# EAGLE library part EP4CE6F17_S (library altera-cyclone)
EP4CE6F17 edit this description Auto generated by make-symbol-device-package-bsdl.ulp Rev. 43 Source: EP4CE6F17.bsdl Connect-List generated from IS.DEV Variant X with split-device-symbol.ulp
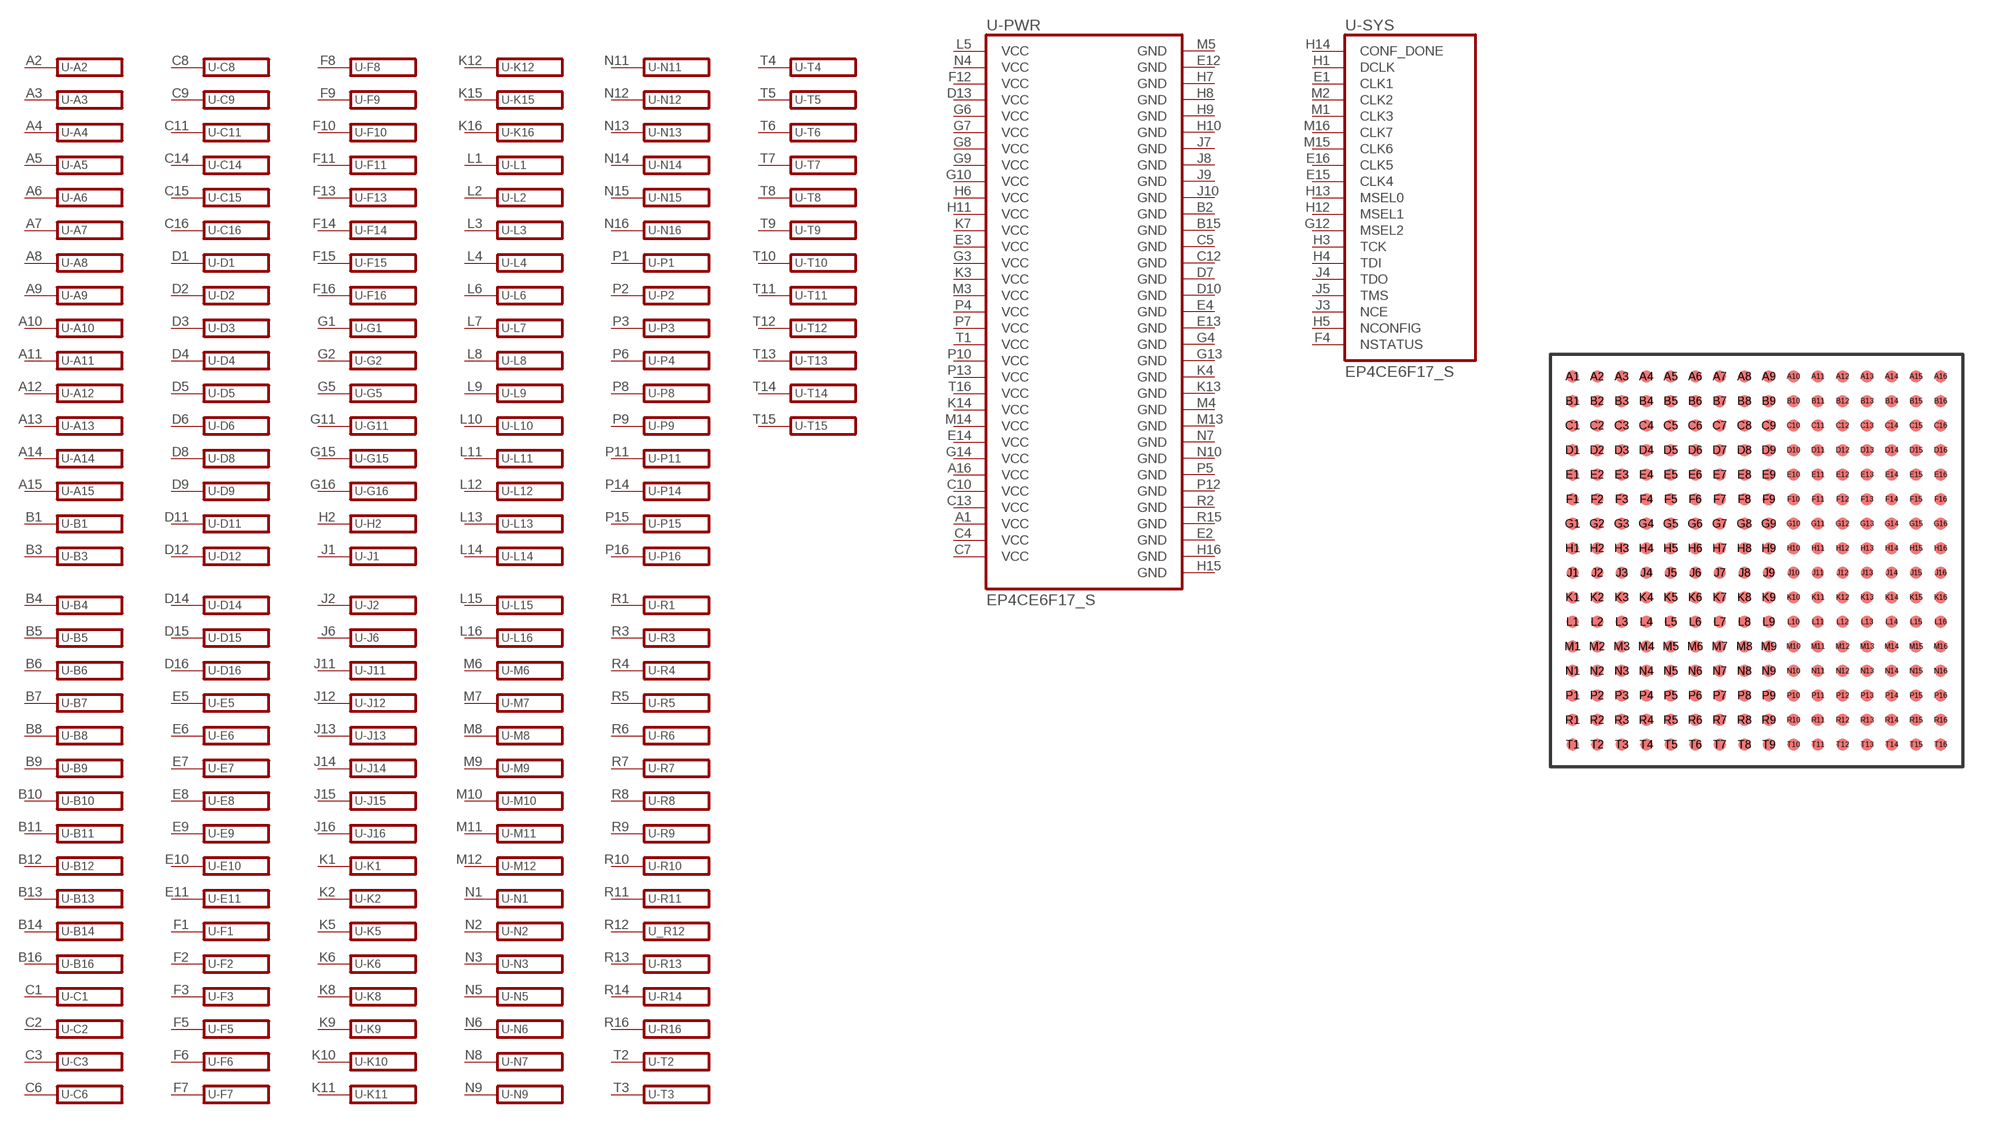
[diagram p2: symbol with the pads of FBGA256; footprint FBGA256]

Designator prefix U; gates -PWR=EP4CE6F17_PWR -SYS=EP4CE6F17_SYS -A2=IOPIN -A3=IOPIN -A4=IOPIN -A5=IOPIN -A6=IOPIN -A7=IOPIN -A8=IOPIN -A9=IOPIN -A10=IOPIN -A11=IOPIN -A12=IOPIN -A13=IOPIN -A14=IOPIN -A15=IOPIN -B1=IOPIN -B3=IOPIN -B4=IOPIN -B5=IOPIN -B6=IOPIN -B7=IOPIN -B8=IOPIN -B9=IOPIN -B10=IOPIN -B11=IOPIN -B12=IOPIN -B13=IOPIN -B14=IOPIN -B16=IOPIN -C1=IOPIN -C2=IOPIN -C3=IOPIN -C6=IOPIN -C8=IOPIN -C9=IOPIN -C11=IOPIN -C14=IOPIN -C15=IOPIN -C16=IOPIN -D1=IOPIN -D2=IOPIN -D3=IOPIN -D4=IOPIN -D5=IOPIN -D6=IOPIN -D8=IOPIN -D9=IOPIN -D11=IOPIN -D12=IOPIN -D14=IOPIN -D15=IOPIN -D16=IOPIN -E5=IOPIN -E6=IOPIN -E7=IOPIN -E8=IOPIN -E9=IOPIN -E10=IOPIN -E11=IOPIN -F1=IOPIN -F2=IOPIN -F3=IOPIN -F5=IOPIN -F6=IOPIN -F7=IOPIN -F8=IOPIN -F9=IOPIN -F10=IOPIN -F11=IOPIN -F13=IOPIN -F14=IOPIN -F15=IOPIN -F16=IOPIN -G1=IOPIN -G2=IOPIN -G5=IOPIN -G11=IOPIN -G15=IOPIN -G16=IOPIN -H2=IOPIN -J1=IOPIN -J2=IOPIN -J6=IOPIN -J11=IOPIN -J12=IOPIN -J13=IOPIN -J14=IOPIN -J15=IOPIN -J16=IOPIN -K1=IOPIN -K2=IOPIN -K5=IOPIN -K6=IOPIN -K8=IOPIN -K9=IOPIN -K10=IOPIN -K11=IOPIN -K12=IOPIN -K15=IOPIN -K16=IOPIN -L1=IOPIN -L2=IOPIN -L3=IOPIN -L4=IOPIN -L6=IOPIN -L7=IOPIN -L8=IOPIN -L9=IOPIN -L10=IOPIN -L11=IOPIN -L12=IOPIN -L13=IOPIN -L14=IOPIN -L15=IOPIN -L16=IOPIN -M6=IOPIN -M7=IOPIN -M8=IOPIN -M9=IOPIN -M10=IOPIN -M11=IOPIN -M12=IOPIN -N1=IOPIN -N2=IOPIN -N3=IOPIN -N5=IOPIN -N6=IOPIN -N7=IOPIN -N9=IOPIN -N11=IOPIN -N12=IOPIN -N13=IOPIN -N14=IOPIN -N15=IOPIN -N16=IOPIN -P1=IOPIN -P2=IOPIN -P3=IOPIN -P4=IOPIN -P8=IOPIN -P9=IOPIN -P11=IOPIN -P14=IOPIN -P15=IOPIN -P16=IOPIN -R1=IOPIN -R3=IOPIN -R4=IOPIN -R5=IOPIN -R6=IOPIN -R7=IOPIN -R8=IOPIN -R9=IOPIN -R10=IOPIN -R11=IOPIN _R12=IOPIN -R13=IOPIN -R14=IOPIN -R16=IOPIN -T2=IOPIN -T3=IOPIN -T4=IOPIN -T5=IOPIN -T6=IOPIN -T7=IOPIN -T8=IOPIN -T9=IOPIN -T10=IOPIN -T11=IOPIN -T12=IOPIN -T13=IOPIN -T14=IOPIN -T15=IOPIN

## EP4CE6F17_S (P1I: o)  [FBGA256]
A1  -PWR:VCC  pwr
A2  -A2:1
A3  -A3:1
A4  -A4:1
A5  -A5:1
A6  -A6:1
A7  -A7:1
A8  -A8:1
A9  -A9:1
A10  -A10:1
A11  -A11:1
A12  -A12:1
A13  -A13:1
A14  -A14:1
A15  -A15:1
A16  -PWR:VCC  pwr
B1  -B1:1
B2  -PWR:GND  pwr
B3  -B3:1
B4  -B4:1
B5  -B5:1
B6  -B6:1
B7  -B7:1
B8  -B8:1
B9  -B9:1
B10  -B10:1
B11  -B11:1
B12  -B12:1
B13  -B13:1
B14  -B14:1
B15  -PWR:GND  pwr
B16  -B16:1
C1  -C1:1
C2  -C2:1
C3  -C3:1
C4  -PWR:VCC  pwr
C5  -PWR:GND  pwr
C6  -C6:1
C7  -PWR:VCC  pwr
C8  -C8:1
C9  -C9:1
C10  -PWR:VCC  pwr
C11  -C11:1
C12  -PWR:GND  pwr
C13  -PWR:VCC  pwr
C14  -C14:1
C15  -C15:1
C16  -C16:1
D1  -D1:1
D2  -D2:1
D3  -D3:1
D4  -D4:1
D5  -D5:1
D6  -D6:1
D7  -PWR:GND  pwr
D8  -D8:1
D9  -D9:1
D10  -PWR:GND  pwr
D11  -D11:1
D12  -D12:1
D13  -PWR:VCC  pwr
D14  -D14:1
D15  -D15:1
D16  -D16:1
E1  -SYS:CLK1  pas
E2  -PWR:GND  pwr
E3  -PWR:VCC  pwr
E4  -PWR:GND  pwr
E5  -E5:1
E6  -E6:1
E7  -E7:1
E8  -E8:1
E9  -E9:1
E10  -E10:1
E11  -E11:1
E12  -PWR:GND  pwr
E13  -PWR:GND  pwr
E14  -PWR:VCC  pwr
E15  -SYS:CLK4  pas
E16  -SYS:CLK5  pas
F1  -F1:1
F2  -F2:1
F3  -F3:1
F4  -SYS:NSTATUS  pas
F5  -F5:1
F6  -F6:1
F7  -F7:1
F8  -F8:1
F9  -F9:1
F10  -F10:1
F11  -F11:1
F12  -PWR:VCC  pwr
F13  -F13:1
F14  -F14:1
F15  -F15:1
F16  -F16:1
G1  -G1:1
G2  -G2:1
G3  -PWR:VCC  pwr
G4  -PWR:GND  pwr
G5  -G5:1
G6  -PWR:VCC  pwr
G7  -PWR:VCC  pwr
G8  -PWR:VCC  pwr
G9  -PWR:VCC  pwr
G10  -PWR:VCC  pwr
G11  -G11:1
G12  -SYS:MSEL2  in
G13  -PWR:GND  pwr
G14  -PWR:VCC  pwr
G15  -G15:1
G16  -G16:1
H1  -SYS:DCLK  pas
H2  -H2:1
H3  -SYS:TCK  in
H4  -SYS:TDI  in
H5  -SYS:NCONFIG  pas
H6  -PWR:VCC  pwr
H7  -PWR:GND  pwr
H8  -PWR:GND  pwr
H9  -PWR:GND  pwr
H10  -PWR:GND  pwr
H11  -PWR:VCC  pwr
H12  -SYS:MSEL1  in
H13  -SYS:MSEL0  in
H14  -SYS:CONF_DONE  pas
H15  -PWR:GND  pwr
H16  -PWR:GND  pwr
J1  -J1:1
J2  -J2:1
J3  -SYS:NCE  pas
J4  -SYS:TDO  out
J5  -SYS:TMS  in
J6  -J6:1
J7  -PWR:GND  pwr
J8  -PWR:GND  pwr
J9  -PWR:GND  pwr
J10  -PWR:GND  pwr
J11  -J11:1
J12  -J12:1
J13  -J13:1
J14  -J14:1
J15  -J15:1
J16  -J16:1
K1  -K1:1
K2  -K2:1
K3  -PWR:VCC  pwr
K4  -PWR:GND  pwr
K5  -K5:1
K6  -K6:1
K7  -PWR:VCC  pwr
K8  -K8:1
K9  -K9:1
K10  -K10:1
K11  -K11:1
K12  -K12:1
K13  -PWR:GND  pwr
K14  -PWR:VCC  pwr
K15  -K15:1
K16  -K16:1
L1  -L1:1
L2  -L2:1
L3  -L3:1
L4  -L4:1
L5  -PWR:VCC  pwr
L6  -L6:1
L7  -L7:1
L8  -L8:1
L9  -L9:1
L10  -L10:1
L11  -L11:1
L12  -L12:1
L13  -L13:1
L14  -L14:1
L15  -L15:1
L16  -L16:1
M1  -SYS:CLK3  pas
M2  -SYS:CLK2  pas
M3  -PWR:VCC  pwr
M4  -PWR:GND  pwr
M5  -PWR:GND  pwr
M6  -M6:1
M7  -M7:1
M8  -M8:1
M9  -M9:1
M10  -M10:1
M11  -M11:1
M12  -M12:1
M13  -PWR:GND  pwr
M14  -PWR:VCC  pwr
M15  -SYS:CLK6  pas
M16  -SYS:CLK7  pas
N1  -N1:1
N2  -N2:1
N3  -N3:1
N4  -PWR:VCC  pwr
N5  -N5:1
N6  -N6:1
N7  -PWR:GND  pwr
N8  -N7:1
N9  -N9:1
N10  -PWR:GND  pwr
N11  -N11:1
N12  -N12:1
N13  -N13:1
N14  -N14:1
N15  -N15:1
N16  -N16:1
P1  -P1:1
P2  -P2:1
P3  -P3:1
P4  -PWR:VCC  pwr
P5  -PWR:GND  pwr
P6  -P4:1
P7  -PWR:VCC  pwr
P8  -P8:1
P9  -P9:1
P10  -PWR:VCC  pwr
P11  -P11:1
P12  -PWR:GND  pwr
P13  -PWR:VCC  pwr
P14  -P14:1
P15  -P15:1
P16  -P16:1
R1  -R1:1
R2  -PWR:GND  pwr
R3  -R3:1
R4  -R4:1
R5  -R5:1
R6  -R6:1
R7  -R7:1
R8  -R8:1
R9  -R9:1
R10  -R10:1
R11  -R11:1
R12  _R12:1
R13  -R13:1
R14  -R14:1
R15  -PWR:GND  pwr
R16  -R16:1
T1  -PWR:VCC  pwr
T2  -T2:1
T3  -T3:1
T4  -T4:1
T5  -T5:1
T6  -T6:1
T7  -T7:1
T8  -T8:1
T9  -T9:1
T10  -T10:1
T11  -T11:1
T12  -T12:1
T13  -T13:1
T14  -T14:1
T15  -T15:1
T16  -PWR:VCC  pwr

## Footprint FBGA256 (pad centres in mm)
EP4CE6F17 edit this description Auto generated by make-symbol-device-package-bsdl.ulp Rev. 43 Source: EP4CE6F17.bsdl
smd 0.5 x 0.5: A1 -7.5,7.5; A2 -6.5,7.5; A3 -5.5,7.5; A4 -4.5,7.5; A5 -3.5,7.5; A6 -2.5,7.5; A7 -1.5,7.5; A8 -0.5,7.5; A9 0.5,7.5; A10 1.5,7.5; A11 2.5,7.5; A12 3.5,7.5; A13 4.5,7.5; A14 5.5,7.5; A15 6.5,7.5; A16 7.5,7.5; B1 -7.5,6.5; B2 -6.5,6.5; B3 -5.5,6.5; B4 -4.5,6.5; B5 -3.5,6.5; B6 -2.5,6.5; B7 -1.5,6.5; B8 -0.5,6.5; B9 0.5,6.5; B10 1.5,6.5; B11 2.5,6.5; B12 3.5,6.5; B13 4.5,6.5; B14 5.5,6.5; B15 6.5,6.5; B16 7.5,6.5; C1 -7.5,5.5; C2 -6.5,5.5; C3 -5.5,5.5; C4 -4.5,5.5; C5 -3.5,5.5; C6 -2.5,5.5; C7 -1.5,5.5; C8 -0.5,5.5; C9 0.5,5.5; C10 1.5,5.5; C11 2.5,5.5; C12 3.5,5.5; C13 4.5,5.5; C14 5.5,5.5; C15 6.5,5.5; C16 7.5,5.5; D1 -7.5,4.5; D2 -6.5,4.5; D3 -5.5,4.5; D4 -4.5,4.5; D5 -3.5,4.5; D6 -2.5,4.5; D7 -1.5,4.5; D8 -0.5,4.5; D9 0.5,4.5; D10 1.5,4.5; D11 2.5,4.5; D12 3.5,4.5; D13 4.5,4.5; D14 5.5,4.5; D15 6.5,4.5; D16 7.5,4.5; E1 -7.5,3.5; E2 -6.5,3.5; E3 -5.5,3.5; E4 -4.5,3.5; E5 -3.5,3.5; E6 -2.5,3.5; E7 -1.5,3.5; E8 -0.5,3.5; E9 0.5,3.5; E10 1.5,3.5; E11 2.5,3.5; E12 3.5,3.5; E13 4.5,3.5; E14 5.5,3.5; E15 6.5,3.5; E16 7.5,3.5; F1 -7.5,2.5; F2 -6.5,2.5; F3 -5.5,2.5; F4 -4.5,2.5; F5 -3.5,2.5; F6 -2.5,2.5; F7 -1.5,2.5; F8 -0.5,2.5; F9 0.5,2.5; F10 1.5,2.5; F11 2.5,2.5; F12 3.5,2.5; F13 4.5,2.5; F14 5.5,2.5; F15 6.5,2.5; F16 7.5,2.5; G1 -7.5,1.5; G2 -6.5,1.5; G3 -5.5,1.5; G4 -4.5,1.5; G5 -3.5,1.5; G6 -2.5,1.5; G7 -1.5,1.5; G8 -0.5,1.5; G9 0.5,1.5; G10 1.5,1.5; G11 2.5,1.5; G12 3.5,1.5; G13 4.5,1.5; G14 5.5,1.5; G15 6.5,1.5; G16 7.5,1.5; H1 -7.5,0.5; H2 -6.5,0.5; H3 -5.5,0.5; H4 -4.5,0.5; H5 -3.5,0.5; H6 -2.5,0.5; H7 -1.5,0.5; H8 -0.5,0.5; H9 0.5,0.5; H10 1.5,0.5; H11 2.5,0.5; H12 3.5,0.5; H13 4.5,0.5; H14 5.5,0.5; H15 6.5,0.5; H16 7.5,0.5; J1 -7.5,-0.5; J2 -6.5,-0.5; J3 -5.5,-0.5; J4 -4.5,-0.5; J5 -3.5,-0.5; J6 -2.5,-0.5; J7 -1.5,-0.5; J8 -0.5,-0.5; J9 0.5,-0.5; J10 1.5,-0.5; J11 2.5,-0.5; J12 3.5,-0.5; J13 4.5,-0.5; J14 5.5,-0.5; J15 6.5,-0.5; J16 7.5,-0.5; K1 -7.5,-1.5; K2 -6.5,-1.5; K3 -5.5,-1.5; K4 -4.5,-1.5; K5 -3.5,-1.5; K6 -2.5,-1.5; K7 -1.5,-1.5; K8 -0.5,-1.5; K9 0.5,-1.5; K10 1.5,-1.5; K11 2.5,-1.5; K12 3.5,-1.5; K13 4.5,-1.5; K14 5.5,-1.5; K15 6.5,-1.5; K16 7.5,-1.5; L1 -7.5,-2.5; L2 -6.5,-2.5; L3 -5.5,-2.5; L4 -4.5,-2.5; L5 -3.5,-2.5; L6 -2.5,-2.5; L7 -1.5,-2.5; L8 -0.5,-2.5; L9 0.5,-2.5; L10 1.5,-2.5; L11 2.5,-2.5; L12 3.5,-2.5; L13 4.5,-2.5; L14 5.5,-2.5; L15 6.5,-2.5; L16 7.5,-2.5; M1 -7.5,-3.5; M2 -6.5,-3.5; M3 -5.5,-3.5; M4 -4.5,-3.5; M5 -3.5,-3.5; M6 -2.5,-3.5; M7 -1.5,-3.5; M8 -0.5,-3.5; M9 0.5,-3.5; M10 1.5,-3.5; M11 2.5,-3.5; M12 3.5,-3.5; M13 4.5,-3.5; M14 5.5,-3.5; M15 6.5,-3.5; M16 7.5,-3.5; N1 -7.5,-4.5; N2 -6.5,-4.5; N3 -5.5,-4.5; N4 -4.5,-4.5; N5 -3.5,-4.5; N6 -2.5,-4.5; N7 -1.5,-4.5; N8 -0.5,-4.5; N9 0.5,-4.5; N10 1.5,-4.5; N11 2.5,-4.5; N12 3.5,-4.5; N13 4.5,-4.5; N14 5.5,-4.5; N15 6.5,-4.5; N16 7.5,-4.5; P1 -7.5,-5.5; P2 -6.5,-5.5; P3 -5.5,-5.5; P4 -4.5,-5.5; P5 -3.5,-5.5; P6 -2.5,-5.5; P7 -1.5,-5.5; P8 -0.5,-5.5; P9 0.5,-5.5; P10 1.5,-5.5; P11 2.5,-5.5; P12 3.5,-5.5; P13 4.5,-5.5; P14 5.5,-5.5; P15 6.5,-5.5; P16 7.5,-5.5; R1 -7.5,-6.5; R2 -6.5,-6.5; R3 -5.5,-6.5; R4 -4.5,-6.5; R5 -3.5,-6.5; R6 -2.5,-6.5; R7 -1.5,-6.5; R8 -0.5,-6.5; R9 0.5,-6.5; R10 1.5,-6.5; R11 2.5,-6.5; R12 3.5,-6.5; R13 4.5,-6.5; R14 5.5,-6.5; R15 6.5,-6.5; R16 7.5,-6.5; T1 -7.5,-7.5; T2 -6.5,-7.5; T3 -5.5,-7.5; T4 -4.5,-7.5; T5 -3.5,-7.5; T6 -2.5,-7.5; T7 -1.5,-7.5; T8 -0.5,-7.5; T9 0.5,-7.5; T10 1.5,-7.5; T11 2.5,-7.5; T12 3.5,-7.5; T13 4.5,-7.5; T14 5.5,-7.5; T15 6.5,-7.5; T16 7.5,-7.5